# EAGLE library part INA2128 (library 0SBLib)
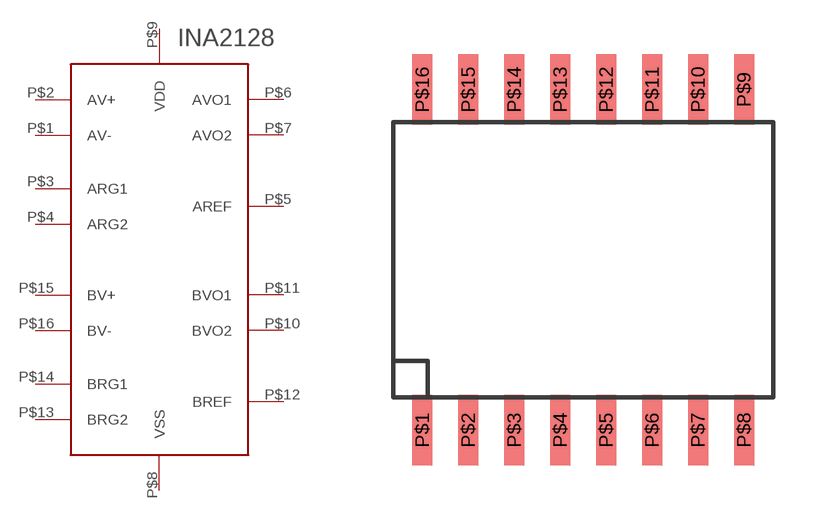
[diagram p6: symbol with the pads of SO16W; footprint SO16W]

Designator prefix -

## INA2128  [SO16W]
P$1  AV-
P$2  AV+
P$3  ARG1
P$4  ARG2
P$5  AREF
P$6  AVO1
P$7  AVO2
P$8  VSS
P$9  VDD
P$10  BVO2
P$11  BVO1
P$12  BREF
P$13  BRG2
P$14  BRG1
P$15  BV+
P$16  BV-

## Footprint SO16W (pad centres in mm)
smd 0.55 x 1.95: P$1 -4.445,-4.71; P$2 -3.175,-4.71; P$3 -1.905,-4.71; P$4 -0.635,-4.71; P$5 0.635,-4.71; P$6 1.905,-4.71; P$7 3.175,-4.71; P$8 4.445,-4.71; P$9 4.445,4.71; P$10 3.175,4.71; P$11 1.905,4.71; P$12 0.635,4.71; P$13 -0.635,4.71; P$14 -1.905,4.71; P$15 -3.175,4.71; P$16 -4.445,4.71